# Altium footprint library RESC3015X050.PcbLib: 3 footprints
Each footprint in its own frame and in the unit in brackets; x right, y up, seen from the top. Pads: shape width x height; smd on the part's side, far side on the other; paste and mask are expansions set on the pad; w line width, h text height; cw(c..) or ccw(c..) is an arc to the next point about the centre after c.
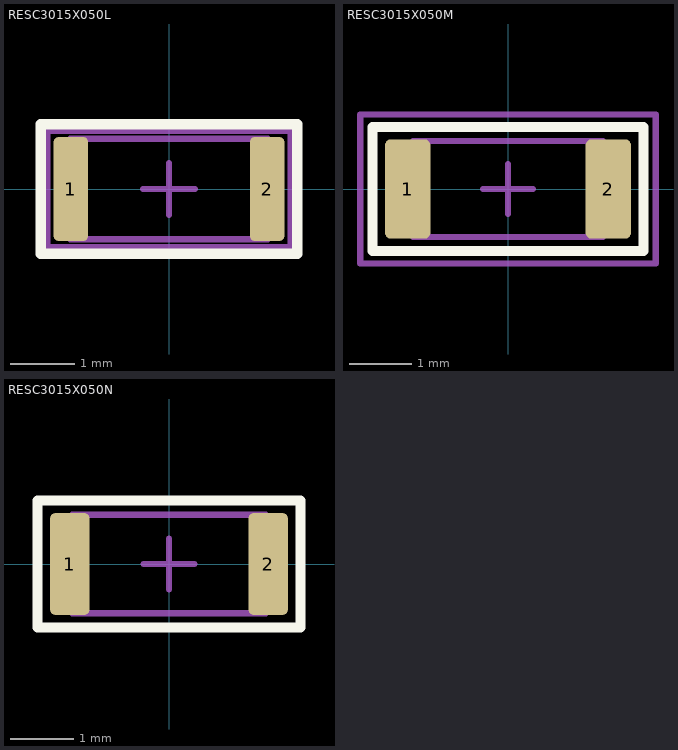
[diagram p0: the footprints below, top view; thin cyan lines are the x and y axes]

## RESC3015X050L [mm] "Resistors, Chip"
height 0.6
pads (2):
  rrect25% 0.53x1.6 smd: 1(-1.515,0) 2(1.515,0)
Top Overlay:
  lines w0.16: -1.98,-1 1.98,-1 1.98,1 -1.98,1 -1.98,-1
Top Component Center:
  lines w0.1: -0.4,0 0.4,0 ; 0,-0.4 0,0.4
Top Courtyard:
  lines w0.1: -1.88,-0.9 1.88,-0.9 1.88,0.9 -1.88,0.9 -1.88,-0.9
Top Assembly:
  lines w0.1: -1.525,-0.775 1.525,-0.775 1.525,0.775 -1.525,0.775 -1.525,-0.775
  text ".Designator" at 0,0 h1
3D body "RESC3015X050L.STEP": height 0.5, standoff 0, extent -1.525,-0.775 1.525,0.775

## RESC3015X050M [mm] "Resistors, Chip"
height 0.6
pads (2):
  rrect25% 0.73x1.6 smd: 1(-1.615,0) 2(1.615,0)
Top Overlay:
  lines w0.16: -2.18,-1 2.18,-1 2.18,1 -2.18,1 -2.18,-1
Top Component Center:
  lines w0.1: -0.4,0 0.4,0 ; 0,-0.4 0,0.4
Top Courtyard:
  lines w0.1: -2.38,-1.2 2.38,-1.2 2.38,1.2 -2.38,1.2 -2.38,-1.2
Top Assembly:
  lines w0.1: -1.525,-0.775 1.525,-0.775 1.525,0.775 -1.525,0.775 -1.525,-0.775
  text ".Designator" at 0,0 h1
3D body "RESC3015X050M.STEP": height 0.5, standoff 0, extent -1.525,-0.775 1.525,0.775

## RESC3015X050N [mm] "Resistors, Chip"
height 0.6
pads (2):
  rrect25% 0.62x1.6 smd: 1(-1.56,0) 2(1.56,0)
Top Overlay:
  lines w0.16: -2.07,-1 2.07,-1 2.07,1 -2.07,1 -2.07,-1
Top Component Center:
  lines w0.1: -0.4,0 0.4,0 ; 0,-0.4 0,0.4
Top Courtyard:
  lines w0.1: -2.07,-1 2.07,-1 2.07,1 -2.07,1 -2.07,-1
Top Assembly:
  lines w0.1: -1.525,-0.775 1.525,-0.775 1.525,0.775 -1.525,0.775 -1.525,-0.775
  text ".Designator" at 0,0 h1
3D body "RESC3015X050N.STEP": height 0.5, standoff 0, extent -1.525,-0.775 1.525,0.775